# EAGLE library part MAGI³C-VDRM_BQFN_171020302 (library 171050601_Eagle_VDRM_rev19a)
MagI³C-VDRM Variable Step Down Regulator Module Characteristics Low conducted and radiated EMI (compliant to EN55022 class B / CISPR-22) TO263-7EP Leaded package for easy manufacturing and prototyping Simple layout Wide input voltage range for input transient capability Support ambient temperatures up to + 105 °C 2 solder cycles supported QFN Low profile package Simple application circuit (only 4 external components required) Optional multiple features (adj.frequency, adj.softstart, power good, sequencing, tracking, synchronization to external clock, adjustable undervoltage lockout) Wide input voltage range QFN41 type 3 solder cycles supported LGA-16EP Low profile LGA-package Stand alone solution (CIN and COUT integrated, 2 external components to set VOUT) Ideal for space constrained applications 2 solder cycles supported Applications Point-of-Load DC-DC applications from 24V, 18V, 15V, 12V, 9V, 5V industrial rails Industrial, Test & Measurement, Medical applications System power supplies I/O interface power supply DSPs, FPGAs, MCUs and MPUs supply High density distributed power systems Telecommunication applications <https://katalog.we-online.com/media/images/v2/o33388v209%20MagIC_VDRM_pf2.jpg> Details see: https://katalog.we-online.com/en/pm/MAGIC-VDRM Updated by Ella Wu 2019-09-19 2019(C) Wurth Elektronik
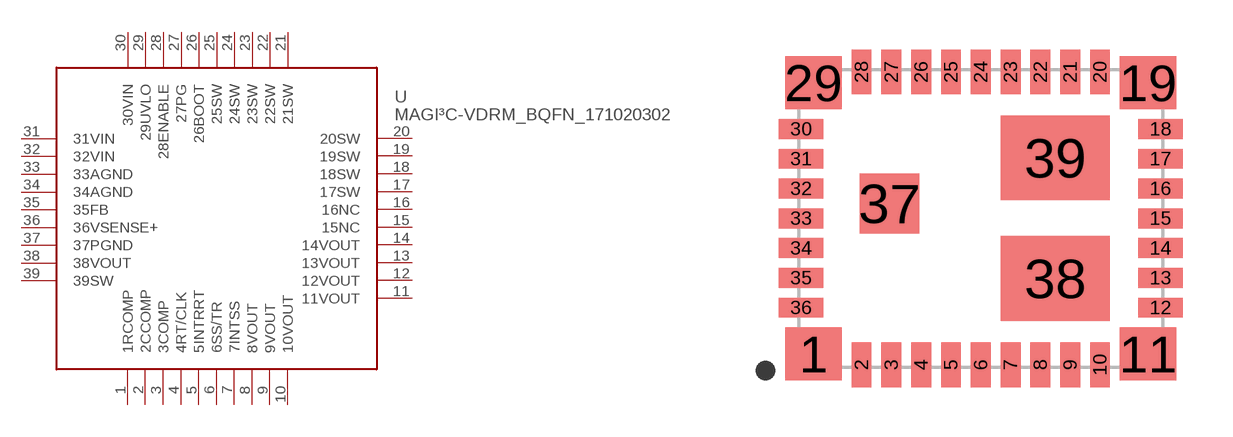
[diagram p11: symbol with the pads of MAGI³C-VDRM_BQFN_1710X0302; footprint MAGI³C-VDRM_BQFN_1710X0302]

Designator prefix U

## MAGI³C-VDRM_BQFN_171020302 (DATASHEET-URL: https://katalog.we-online.de/pm/datasheet/171020302.pdf; I-OUTPUT: 2A; MOUNT: SMT; PART-NUMBER: 171020302; V-INPUT: 2.95-6V; V-OUTPUT: 0.8-3.6V)  [MAGI³C-VDRM_BQFN_1710X0302]
1  1RCOMP
2  2CCOMP
3  3COMP
4  4RT/CLK
5  5INTRRT
6  6SS/TR
7  7INTSS
8  8VOUT
9  9VOUT
10  10VOUT
11  11VOUT
12  12VOUT
13  13VOUT
14  14VOUT
15  15NC
16  16NC
17  17SW
18  18SW
19  19SW
20  20SW
21  21SW
22  22SW
23  23SW
24  24SW
25  25SW
26  26BOOT
27  27PG
28  28ENABLE
29  29UVLO
30  30VIN
31  31VIN
32  32VIN
33  33AGND
34  34AGND
35  35FB
36  36VSENSE+
37  37PGND
38  38VOUT
39  39SW

## Footprint MAGI³C-VDRM_BQFN_1710X0302 (pad centres in mm)
smd 1.7 x 1.6: 1 -5.05,-4.1; 11 5.05,-4.1; 19 5.05,4.1; 29 -5.05,4.1
smd 0.6 x 1.35: 2 -3.6,-4.425; 3 -2.7,-4.425; 4 -1.8,-4.425; 5 -0.9,-4.425; 6 0,-4.425; 7 0.9,-4.425; 8 1.8,-4.425; 9 2.7,-4.425; 10 3.6,-4.425; 20 3.6,4.425; 21 2.7,4.425; 22 1.8,4.425; 23 0.9,4.425; 24 0,4.425; 25 -0.9,4.425; 26 -1.8,4.425; 27 -2.7,4.425; 28 -3.6,4.425
smd 1.35 x 0.6: 12 5.425,-2.7; 13 5.425,-1.8; 14 5.425,-0.9; 15 5.425,0; 16 5.425,0.9; 17 5.425,1.8; 18 5.425,2.7; 30 -5.425,2.7; 31 -5.425,1.8; 32 -5.425,0.9; 33 -5.425,0; 34 -5.425,-0.9; 35 -5.425,-1.8; 36 -5.425,-2.7
smd 1.8 x 1.8: 37 -2.76,0.45
smd 3.3 x 2.56: 38 2.25,-1.82
smd 3.3 x 2.55: 39 2.25,1.825